# Altium schematic symbol library VL812 QFN76 HUB P4 BC DEMO 20120829_Library.SchLib: 37 symbols
Pins are listed as number, name and electrical type; pins without a type are passive.

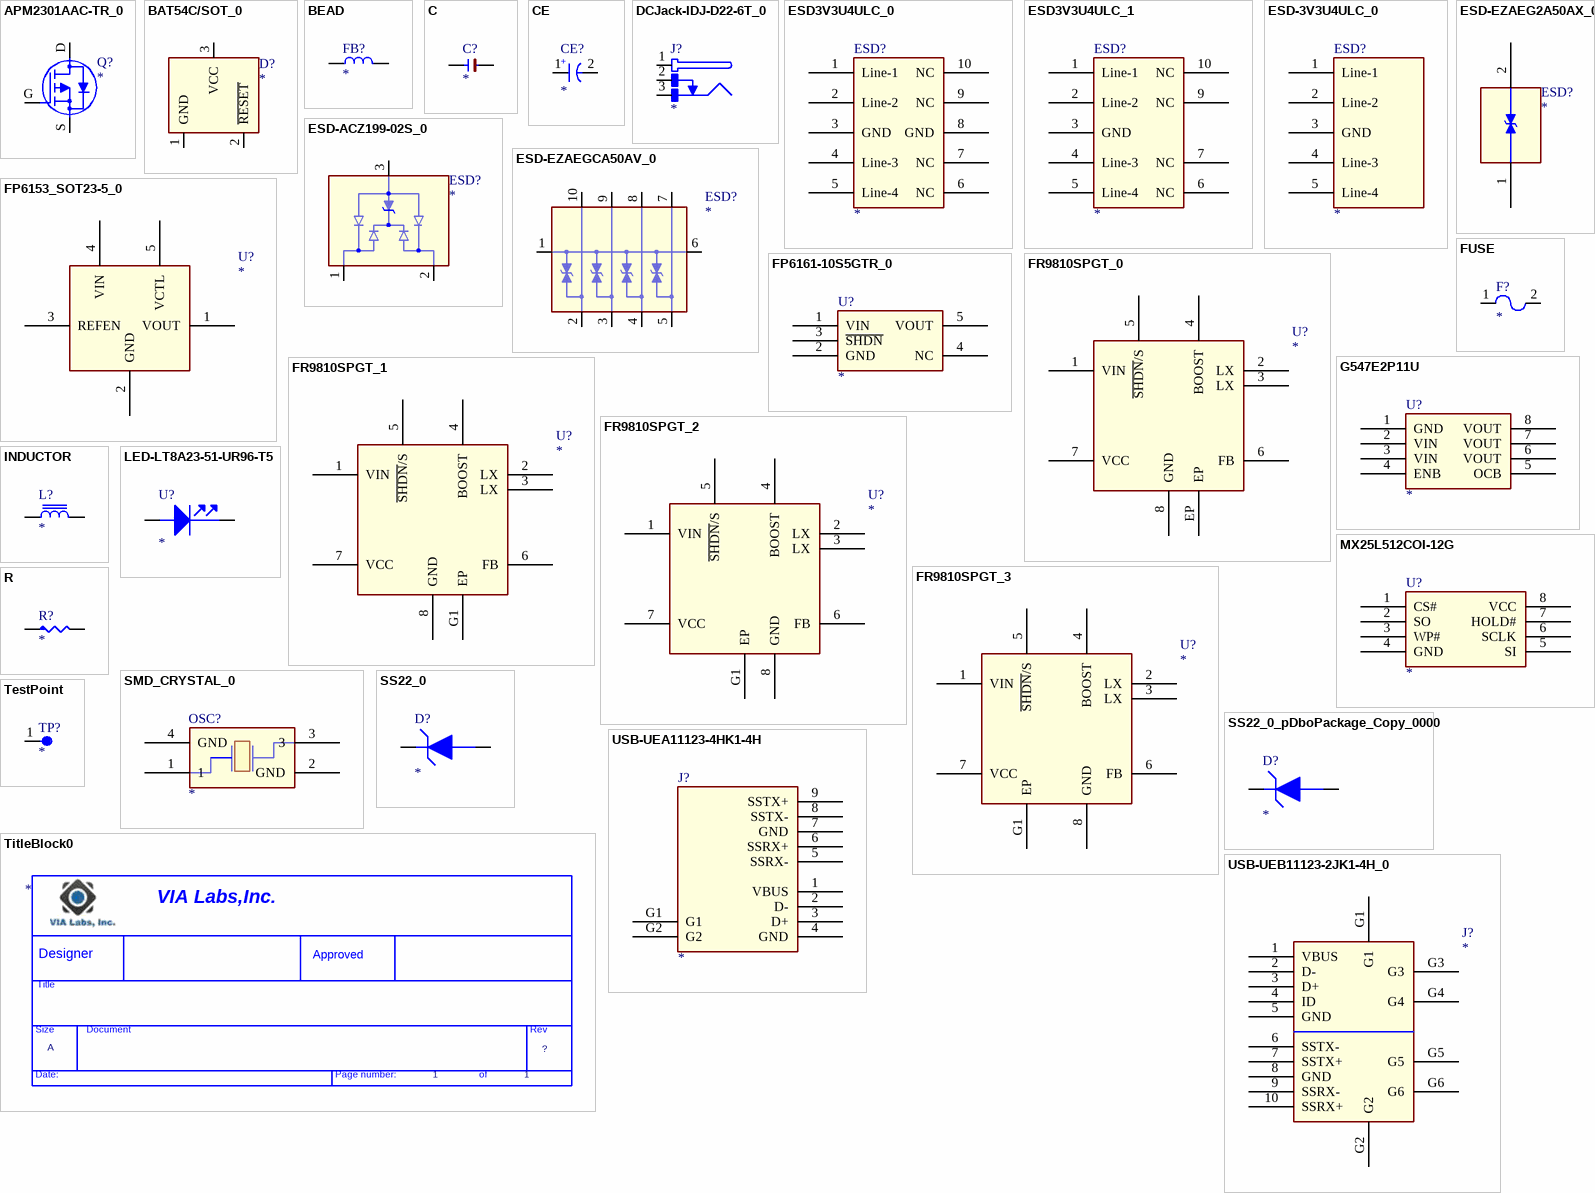
[diagram p0: symbols APM2301AAC-TR_0 to USB-UEB11123-2JK1-4H_0]

## APM2301AAC-TR_0
designator Q?
Date: 11072003
footprint sot23-gds
pins: D DRAIN, G GATE, S SOURCE

## BAT54C/SOT_0
designator D?
pins: 1 GND, 2 ~{RESET}, 3 VCC

## BEAD
designator FB?
Date: 12302002
pins: 1, 2

## C
designator C?
Date: 12302002
footprint 1206
pins: 1, 2

## CE
designator CE?
Date: 12302002
pins: 1 +, 2 -

## DCJack-IDJ-D22-6T_0
designator J?
Date: 11082004
pins: 1 (power), 2, 3 (power)

## ESD3V3U4ULC_0
designator ESD?
footprint TSLP-9-1
pins: 1 Line-1, 2 Line-2, 3 GND (power), 4 Line-3, 5 Line-4, 6 NC, 7 NC, 8 GND (power), 9 NC, 10 NC

## ESD3V3U4ULC_1
designator ESD?
footprint TSLP-9-1
pins: 1 Line-1, 2 Line-2, 3 GND (power), 4 Line-3, 5 Line-4, 6 NC, 7 NC, 9 NC, 10 NC

## ESD-3V3U4ULC_0
designator ESD?
footprint ESD3V3U4ULC
pins: 1 Line-1, 2 Line-2, 3 GND (power), 4 Line-3, 5 Line-4

## ESD-ACZ199-02S_0
designator ESD?
footprint SOT23-3L
pins: 1 I/O1, 2 I/O2, 3 GND

## ESD-EZAEG2A50AX_0
designator ESD?
footprint FILTER-EZAEG2A
pins: 1 IO1, 2 IO2

## ESD-EZAEGCA50AV_0
designator ESD?
footprint FILTER-EZAEGCA
pins: 1 GND (power), 2 IO1_1, 3 IO2_1, 4 IO3_1, 5 IO4_1, 6 GND (power), 7 IO4_2, 8 IO3_2, 9 IO2_2, 10 IO1_2

## FP6153_SOT23-5_0
designator U?
footprint SOT-23-5
pins: 1 VOUT (power), 2 GND (power), 3 REFEN, 4 VIN (power), 5 VCTL

## FP6161-10S5GTR_0
designator U?
Date: 02102009
pins: 1 VIN, 2 GND, 3 ~{SHDN}, 4 NC, 5 VOUT

## FR9810SPGT_0
designator U?
footprint SOIC8-50x204-TH
pins: 1 VIN (power), 2 LX, 3 LX, 4 BOOST, 5 ~{SHDN}/S, 6 FB, 7 VCC (power), 8 GND (power), EP (power)

## FR9810SPGT_1
designator U?
footprint SOIC8-50x204-TH
pins: 1 VIN (power), 2 LX, 3 LX, 4 BOOST, 5 ~{SHDN}/S, 6 FB, 7 VCC (power), 8 GND (power), G1 EP (power)

## FR9810SPGT_2
designator U?
footprint SOIC8-50x204-TH
pins: 1 VIN (power), 2 LX, 3 LX, 4 BOOST, 5 ~{SHDN}/S, 6 FB, 7 VCC (power), 8 GND (power), G1 EP (power)

## FR9810SPGT_3
designator U?
footprint SOIC8-50x204-TH
pins: 1 VIN (power), 2 LX, 3 LX, 4 BOOST, 5 ~{SHDN}/S, 6 FB, 7 VCC (power), 8 GND (power), G1 EP (power)

## FUSE
designator F?
Date: 01072003
pins: 1, 2

## G547E2P11U
designator U?
footprint SOP-8
pins: 1 GND (power), 2 VIN (power), 3 VIN (power), 4 ENB, 5 OCB, 6 VOUT (power), 7 VOUT (power), 8 VOUT (power)

## INDUCTOR
designator L?
Date: 12302002
pins: 1, 2

## LED-LT8A23-51-UR96-T5
designator U?
CLASS: IC; Date: 08022006
pins: 1, 2

## MX25L512COI-12G
designator U?
Date: 04282009
pins: 1 CS#, 2 SO, 3 WP#, 4 GND, 5 SI, 6 SCLK, 7 HOLD#, 8 VCC

## R
designator R?
Date: 12302002
pins: 1, 2

## SMD_CRYSTAL_0
designator OSC?
Date: 10212004
pins: 1, 2 GND, 3, 4 GND

## SS22_0
designator D?
OriginalSymbolOrigin: (96,200); HETERO: DIOZ-H,(DIOZ-V)
pins: A, K

## SS22_0_pDboPackage_Copy_0000
designator D?
OriginalSymbolOrigin: (96,200); HETERO: DIOZ-H,(DIOZ-V)
pins: A, K

## TestPoint
designator TP?
Part Number: CAD; Date: 12302002
footprint smd_tp_1
pins: 1

## TitleBlock0
designator *  Page Count: 1  Page Size: A  (graphical)
Page Number: 1; RevCode: ?; Page Create Date: March  8, 1995
text: VIA Labs,Inc.; Designer; Approved; Title; Size; Document; Rev; Date:; Page number:; of

## USB-UEA11123-4HK1-4H
designator J?
Date: 02042009
pins: 1 VBUS, 2 D-, 3 D+, 4 GND (power), 5 SSRX-, 6 SSRX+, 7 GND (power), 8 SSTX-, 9 SSTX+, G1 (power), G2 (power)

## USB-UEB11123-2JK1-4H_0
designator J?
Date: 02042009
pins: 1 VBUS, 2 D-, 3 D+, 4 ID, 5 GND (power), 6 SSTX-, 7 SSTX+, 8 GND (power), 9 SSRX-, 10 SSRX+, G1, G2, G3, G4, G5, G6

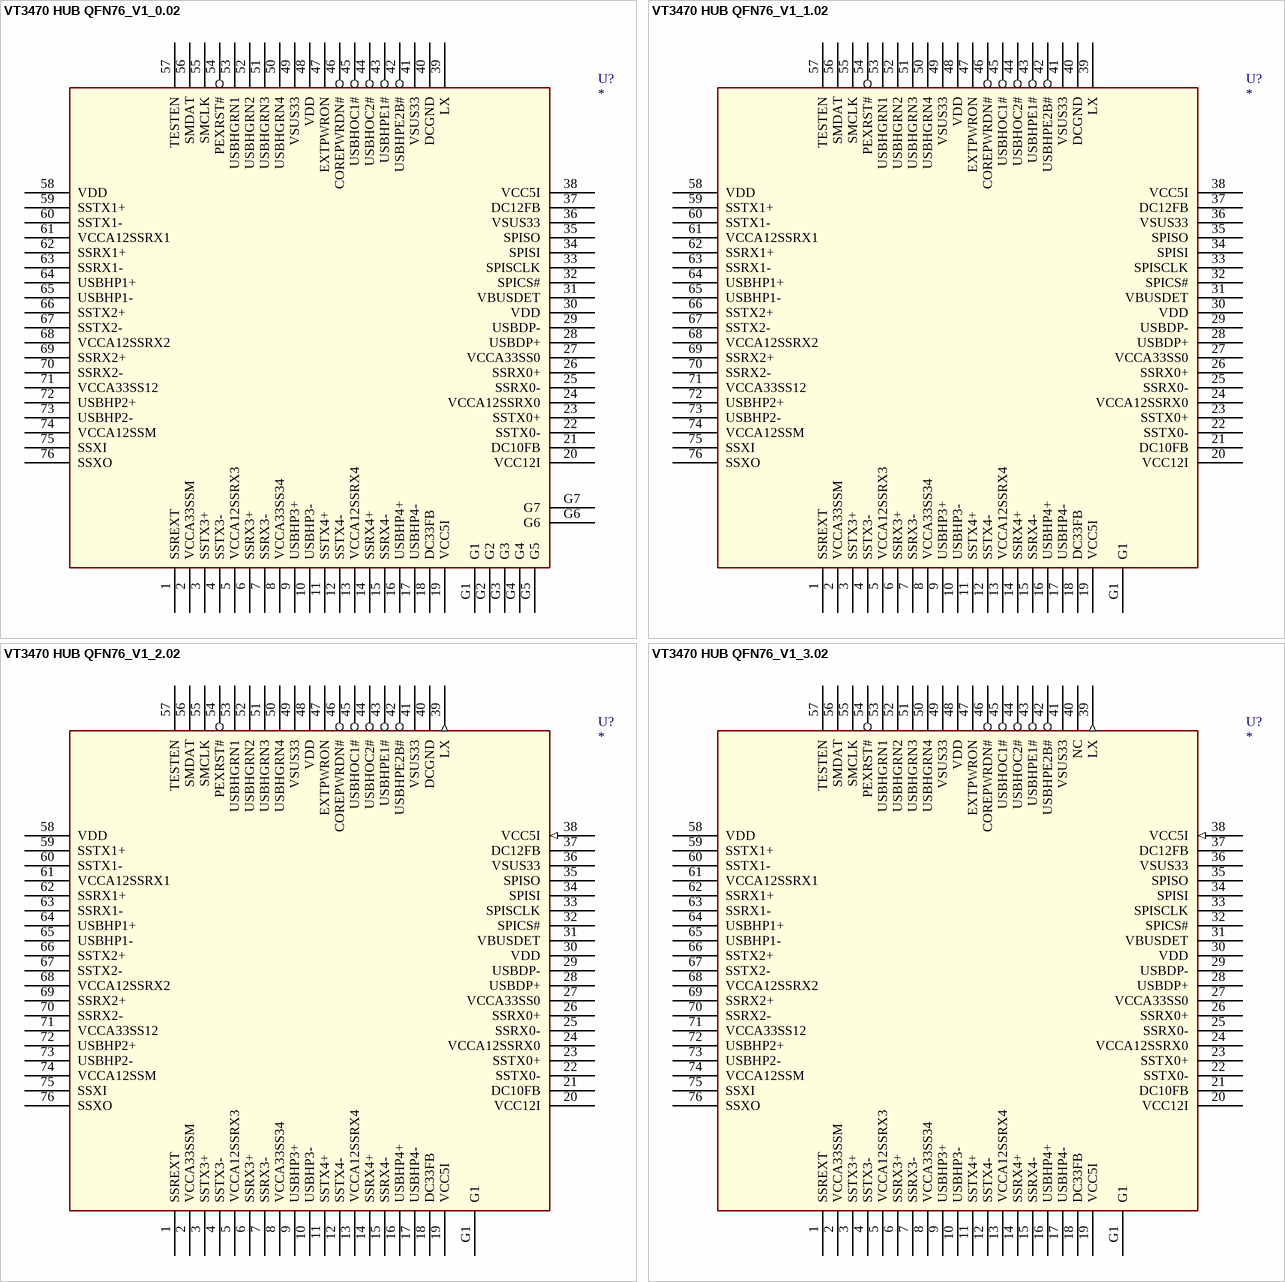
[diagram p1: symbols VT3470 HUB QFN76_V1_0.02 to VT3470 HUB QFN76_V1_3.02]

## VT3470 HUB QFN76_V1_0.02
designator U?
footprint QFN76
pins: 1 SSREXT, 2 VCCA33SSM (power), 3 SSTX3+, 4 SSTX3-, 5 VCCA12SSRX3 (power), 6 SSRX3+, 7 SSRX3-, 8 VCCA33SS34 (power), 9 USBHP3+, 10 USBHP3-, 11 SSTX4+, 12 SSTX4-, 13 VCCA12SSRX4 (power), 14 SSRX4+, 15 SSRX4-, 16 USBHP4+, 17 USBHP4-, 18 DC33FB (power), 19 VCC5I (power), 20 VCC12I (power), 21 DC10FB (power), 22 SSTX0-, 23 SSTX0+, 24 VCCA12SSRX0 (power), 25 SSRX0-, 26 SSRX0+, 27 VCCA33SS0 (power), 28 USBDP+, 29 USBDP-, 30 VDD (power), 31 VBUSDET (power), 32 SPICS#, 33 SPISCLK, 34 SPISI, 35 SPISO, 36 VSUS33 (power), 37 DC12FB, 38 VCC5I (power), 39 LX (power), 40 DCGND (power), 41 VSUS33 (power), 42 USBHPE2B#, 43 USBHPE1#, 44 USBHOC2#, 45 USBHOC1#, 46 COREPWRDN#, 47 EXTPWRON, 48 VDD (power), 49 VSUS33 (power), 50 USBHGRN4, 51 USBHGRN3, 52 USBHGRN2, 53 USBHGRN1, 54 PEXRST#, 55 SMCLK, 56 SMDAT, 57 TESTEN, 58 VDD (power), 59 SSTX1+, 60 SSTX1-, 61 VCCA12SSRX1 (power), 62 SSRX1+, 63 SSRX1- (power), 64 USBHP1+, 65 USBHP1-, 66 SSTX2+, 67 SSTX2-, 68 VCCA12SSRX2 (power), 69 SSRX2+, 70 SSRX2-, 71 VCCA33SS12 (power), 72 USBHP2+, 73 USBHP2-, 74 VCCA12SSM (power), 75 SSXI, 76 SSXO, G1, G2, G3, G4, G5, G6, G7

## VT3470 HUB QFN76_V1_1.02
designator U?
footprint QFN76
pins: 1 SSREXT, 2 VCCA33SSM (power), 3 SSTX3+, 4 SSTX3-, 5 VCCA12SSRX3 (power), 6 SSRX3+, 7 SSRX3-, 8 VCCA33SS34 (power), 9 USBHP3+, 10 USBHP3-, 11 SSTX4+, 12 SSTX4-, 13 VCCA12SSRX4 (power), 14 SSRX4+, 15 SSRX4-, 16 USBHP4+, 17 USBHP4-, 18 DC33FB (power), 19 VCC5I (power), 20 VCC12I (power), 21 DC10FB (power), 22 SSTX0-, 23 SSTX0+, 24 VCCA12SSRX0 (power), 25 SSRX0-, 26 SSRX0+, 27 VCCA33SS0 (power), 28 USBDP+, 29 USBDP-, 30 VDD (power), 31 VBUSDET (power), 32 SPICS#, 33 SPISCLK, 34 SPISI, 35 SPISO, 36 VSUS33 (power), 37 DC12FB, 38 VCC5I (power), 39 LX (power), 40 DCGND (power), 41 VSUS33 (power), 42 USBHPE2B#, 43 USBHPE1#, 44 USBHOC2#, 45 USBHOC1#, 46 COREPWRDN#, 47 EXTPWRON, 48 VDD (power), 49 VSUS33 (power), 50 USBHGRN4, 51 USBHGRN3, 52 USBHGRN2, 53 USBHGRN1, 54 PEXRST#, 55 SMCLK, 56 SMDAT, 57 TESTEN, 58 VDD (power), 59 SSTX1+, 60 SSTX1-, 61 VCCA12SSRX1 (power), 62 SSRX1+, 63 SSRX1- (power), 64 USBHP1+, 65 USBHP1-, 66 SSTX2+, 67 SSTX2-, 68 VCCA12SSRX2 (power), 69 SSRX2+, 70 SSRX2-, 71 VCCA33SS12 (power), 72 USBHP2+, 73 USBHP2-, 74 VCCA12SSM (power), 75 SSXI, 76 SSXO, G1

## VT3470 HUB QFN76_V1_2.02
designator U?
footprint QFN76
pins: 1 SSREXT, 2 VCCA33SSM (power), 3 SSTX3+, 4 SSTX3-, 5 VCCA12SSRX3 (power), 6 SSRX3+, 7 SSRX3-, 8 VCCA33SS34 (power), 9 USBHP3+, 10 USBHP3-, 11 SSTX4+, 12 SSTX4-, 13 VCCA12SSRX4 (power), 14 SSRX4+, 15 SSRX4-, 16 USBHP4+, 17 USBHP4-, 18 DC33FB (power), 19 VCC5I (power), 20 VCC12I (power), 21 DC10FB (power), 22 SSTX0-, 23 SSTX0+, 24 VCCA12SSRX0 (power), 25 SSRX0-, 26 SSRX0+, 27 VCCA33SS0 (power), 28 USBDP+, 29 USBDP-, 30 VDD (power), 31 VBUSDET (power), 32 SPICS#, 33 SPISCLK, 34 SPISI, 35 SPISO, 36 VSUS33 (power), 37 DC12FB, 38 VCC5I (in), 39 LX (out), 40 DCGND (power), 41 VSUS33 (power), 42 USBHPE2B#, 43 USBHPE1#, 44 USBHOC2#, 45 USBHOC1#, 46 COREPWRDN#, 47 EXTPWRON, 48 VDD (power), 49 VSUS33 (power), 50 USBHGRN4, 51 USBHGRN3, 52 USBHGRN2, 53 USBHGRN1, 54 PEXRST#, 55 SMCLK, 56 SMDAT, 57 TESTEN, 58 VDD (power), 59 SSTX1+, 60 SSTX1-, 61 VCCA12SSRX1 (power), 62 SSRX1+, 63 SSRX1- (power), 64 USBHP1+, 65 USBHP1-, 66 SSTX2+, 67 SSTX2-, 68 VCCA12SSRX2 (power), 69 SSRX2+, 70 SSRX2-, 71 VCCA33SS12 (power), 72 USBHP2+, 73 USBHP2-, 74 VCCA12SSM (power), 75 SSXI, 76 SSXO, G1

## VT3470 HUB QFN76_V1_3.02
designator U?
footprint QFN76
pins: 1 SSREXT, 2 VCCA33SSM (power), 3 SSTX3+, 4 SSTX3-, 5 VCCA12SSRX3 (power), 6 SSRX3+, 7 SSRX3-, 8 VCCA33SS34 (power), 9 USBHP3+, 10 USBHP3-, 11 SSTX4+, 12 SSTX4-, 13 VCCA12SSRX4 (power), 14 SSRX4+, 15 SSRX4-, 16 USBHP4+, 17 USBHP4-, 18 DC33FB (power), 19 VCC5I (power), 20 VCC12I (power), 21 DC10FB (power), 22 SSTX0-, 23 SSTX0+, 24 VCCA12SSRX0 (power), 25 SSRX0-, 26 SSRX0+, 27 VCCA33SS0 (power), 28 USBDP+, 29 USBDP-, 30 VDD (power), 31 VBUSDET (power), 32 SPICS#, 33 SPISCLK, 34 SPISI, 35 SPISO, 36 VSUS33 (power), 37 DC12FB, 38 VCC5I (in), 39 LX (out), 40 NC (power), 41 VSUS33 (power), 42 USBHPE2B#, 43 USBHPE1#, 44 USBHOC2#, 45 USBHOC1#, 46 COREPWRDN#, 47 EXTPWRON, 48 VDD (power), 49 VSUS33 (power), 50 USBHGRN4, 51 USBHGRN3, 52 USBHGRN2, 53 USBHGRN1, 54 PEXRST#, 55 SMCLK, 56 SMDAT, 57 TESTEN, 58 VDD (power), 59 SSTX1+, 60 SSTX1-, 61 VCCA12SSRX1 (power), 62 SSRX1+, 63 SSRX1- (power), 64 USBHP1+, 65 USBHP1-, 66 SSTX2+, 67 SSTX2-, 68 VCCA12SSRX2 (power), 69 SSRX2+, 70 SSRX2-, 71 VCCA33SS12 (power), 72 USBHP2+, 73 USBHP2-, 74 VCCA12SSM (power), 75 SSXI, 76 SSXO, G1

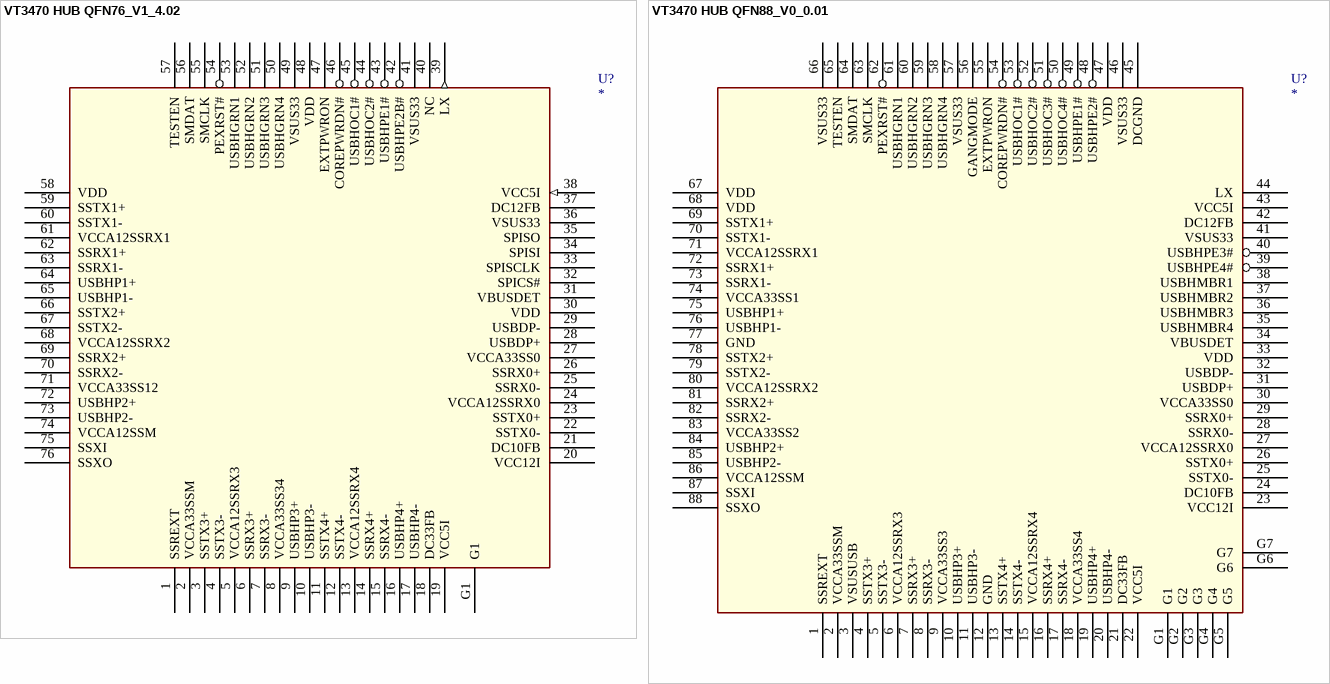
[diagram p2: symbols VT3470 HUB QFN76_V1_4.02 to VT3470 HUB QFN88_V0_0.01]

## VT3470 HUB QFN76_V1_4.02
designator U?
footprint QFN76
pins: 1 SSREXT, 2 VCCA33SSM (power), 3 SSTX3+, 4 SSTX3-, 5 VCCA12SSRX3 (power), 6 SSRX3+, 7 SSRX3-, 8 VCCA33SS34 (power), 9 USBHP3+, 10 USBHP3-, 11 SSTX4+, 12 SSTX4-, 13 VCCA12SSRX4 (power), 14 SSRX4+, 15 SSRX4-, 16 USBHP4+, 17 USBHP4-, 18 DC33FB (power), 19 VCC5I (power), 20 VCC12I (power), 21 DC10FB, 22 SSTX0-, 23 SSTX0+, 24 VCCA12SSRX0 (power), 25 SSRX0-, 26 SSRX0+, 27 VCCA33SS0 (power), 28 USBDP+, 29 USBDP-, 30 VDD (power), 31 VBUSDET (power), 32 SPICS#, 33 SPISCLK, 34 SPISI, 35 SPISO, 36 VSUS33 (power), 37 DC12FB, 38 VCC5I (in), 39 LX (out), 40 NC (power), 41 VSUS33 (power), 42 USBHPE2B#, 43 USBHPE1#, 44 USBHOC2#, 45 USBHOC1#, 46 COREPWRDN#, 47 EXTPWRON, 48 VDD (power), 49 VSUS33 (power), 50 USBHGRN4, 51 USBHGRN3, 52 USBHGRN2, 53 USBHGRN1, 54 PEXRST#, 55 SMCLK, 56 SMDAT, 57 TESTEN, 58 VDD (power), 59 SSTX1+, 60 SSTX1-, 61 VCCA12SSRX1 (power), 62 SSRX1+, 63 SSRX1- (power), 64 USBHP1+, 65 USBHP1-, 66 SSTX2+, 67 SSTX2-, 68 VCCA12SSRX2 (power), 69 SSRX2+, 70 SSRX2-, 71 VCCA33SS12 (power), 72 USBHP2+, 73 USBHP2-, 74 VCCA12SSM (power), 75 SSXI, 76 SSXO, G1

## VT3470 HUB QFN88_V0_0.01
designator U?
footprint QFN88-15P7-TH
pins: 1 SSREXT, 2 VCCA33SSM (power), 3 VSUSUSB (power), 4 SSTX3+, 5 SSTX3-, 6 VCCA12SSRX3 (power), 7 SSRX3+, 8 SSRX3-, 9 VCCA33SS3 (power), 10 USBHP3+, 11 USBHP3-, 12 GND (power), 13 SSTX4+, 14 SSTX4-, 15 VCCA12SSRX4 (power), 16 SSRX4+, 17 SSRX4-, 18 VCCA33SS4 (power), 19 USBHP4+, 20 USBHP4-, 21 DC33FB (power), 22 VCC5I (power), 23 VCC12I (power), 24 DC10FB (power), 25 SSTX0-, 26 SSTX0+, 27 VCCA12SSRX0 (power), 28 SSRX0-, 29 SSRX0+, 30 VCCA33SS0 (power), 31 USBDP+, 32 USBDP-, 33 VDD (power), 34 VBUSDET (power), 35 USBHMBR4, 36 USBHMBR3, 37 USBHMBR2, 38 USBHMBR1, 39 USBHPE4#, 40 USBHPE3#, 41 VSUS33 (power), 42 DC12FB, 43 VCC5I (power), 44 LX (power), 45 DCGND (power), 46 VSUS33 (power), 47 VDD (power), 48 USBHPE2#, 49 USBHPE1#, 50 USBHOC4#, 51 USBHOC3#, 52 USBHOC2#, 53 USBHOC1#, 54 COREPWRDN#, 55 EXTPWRON, 56 GANGMODE, 57 VSUS33 (power), 58 USBHGRN4, 59 USBHGRN3, 60 USBHGRN2, 61 USBHGRN1, 62 PEXRST#, 63 SMCLK, 64 SMDAT, 65 TESTEN, 66 VSUS33 (power), 67 VDD (power), 68 VDD (power), 69 SSTX1+, 70 SSTX1-, 71 VCCA12SSRX1 (power), 72 SSRX1+, 73 SSRX1- (power), 74 VCCA33SS1 (power), 75 USBHP1+, 76 USBHP1-, 77 GND (power), 78 SSTX2+, 79 SSTX2-, 80 VCCA12SSRX2 (power), 81 SSRX2+, 82 SSRX2-, 83 VCCA33SS2 (power), 84 USBHP2+, 85 USBHP2-, 86 VCCA12SSM (power), 87 SSXI, 88 SSXO, G1, G2, G3, G4, G5, G6, G7